# Altium schematic symbol library XTAL-2.Schlib: 1 symbol
Pins are listed as number, name and electrical type; pins without a type are passive.

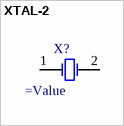
[diagram p0: symbol XTAL-2]

## XTAL-2
designator X?
=Description
pins: 1 OSC1, 2 OSC2